# Altium integrated library MAX5711EUT&plus_T.IntLib: 2 symbols
Pins are listed as number, name and electrical type; pins without a type are passive.

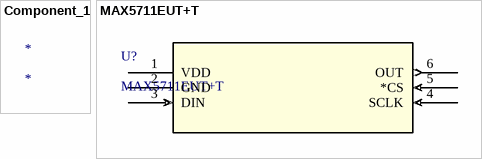
[diagram p0: symbols Component_1 to MAX5711EUT+T]

## Component_1
designator *

## MAX5711EUT+T
designator U?
No Description Available; Mfr_Name: Maxim Integrated Products; Copyright: Copyright (C) 2022 Ultra Librarian. All rights reserved.; Manufacturer_Part_Number: MAX5711EUT+T; RefDes: RefDes; Type: DEV
footprint 21-0058I_MXM
pins: 1 VDD (power), 2 GND (power), 3 DIN (in), 4 SCLK (in), 5 *CS (in), 6 OUT (out)